# Altium footprint library ul_CZRU52C3V3.PcbLib: 3 footprints
Each footprint in its own frame and in the unit in brackets; x right, y up, seen from the top. Pads: shape width x height; smd on the part's side, far side on the other; paste and mask are expansions set on the pad; w line width, h text height; cw(c..) or ccw(c..) is an arc to the next point about the centre after c.
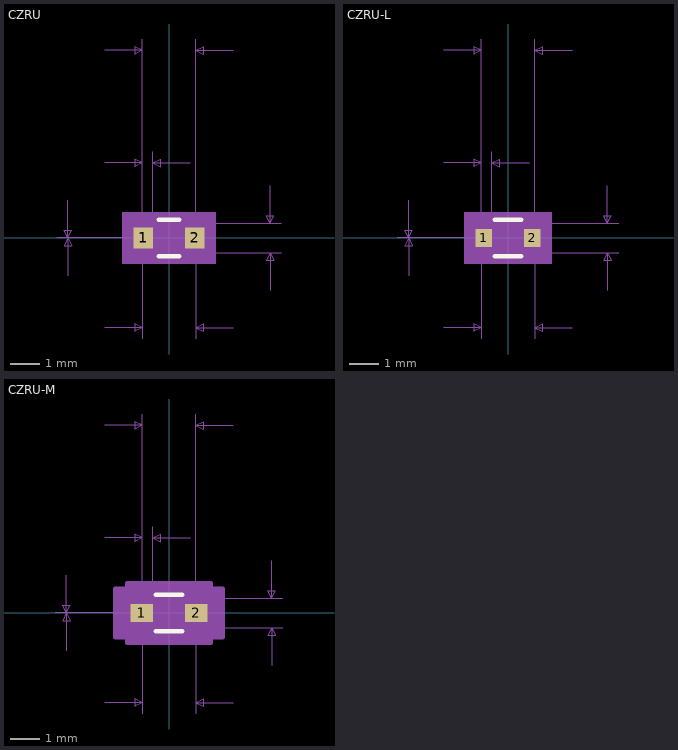
[diagram p0: the footprints below, top view; thin cyan lines are the x and y axes]

## CZRU [mil]
pads (2):
  rect 26x28 smd mask+1: 1(-34.5,0) 2(34.5,0)
Top Overlay:
  lines w6: -13.67,-24.5 13.67,-24.5 ; -13.67,24.5 13.67,24.5
Mechanical 5:
  region: 62.5,-34.5 -62.5,-34.5 -62.5,34.5 62.5,34.5
Mechanical 7:
  lines w1: -134.5,-50 -134.5,0 ; -134.5,50 -134.5,0 ; -85.5,-119.5 -35.5,-119.5 ; -85.5,100 -35.5,100 ; -85.5,250 -35.5,250 ; -35.5,-134.5 -35.5,-19.5 ; -35.5,115 -35.5,0 -35.5,265 ; -21.5,0 -21.5,115 ; 28.5,100 -21.5,100 ; 35.5,-134.5 35.5,-19.5 149.5,-19.5 ; 35.5,0 35.5,265 ; 35.5,19.5 149.5,19.5 ; 85.5,-119.5 35.5,-119.5 ; 85.5,250 35.5,250 ; 134.5,-69.5 134.5,-19.5 ; 134.5,69.5 134.5,19.5 ; -134.5,0 -139.5,10 -129.5,10 -134.5,0 ; -134.5,0 -139.5,-10 -129.5,-10 -134.5,0 ; -35.5,-119.5 -45.5,-114.5 -45.5,-124.5 -35.5,-119.5 ; -35.5,100 -45.5,105 -45.5,95 -35.5,100 ; -35.5,250 -45.5,255 -45.5,245 -35.5,250 ; -21.5,100 -11.5,105 -11.5,95 -21.5,100 ; 35.5,-119.5 45.5,-114.5 45.5,-124.5 35.5,-119.5 ; 35.5,250 45.5,255 45.5,245 35.5,250 ; 134.5,-19.5 129.5,-29.5 139.5,-29.5 134.5,-19.5 ; 134.5,19.5 129.5,29.5 139.5,29.5 134.5,19.5 ; -149.5,0 -34.5,0 -149.5,0
  text "Pin 1 Padstyle: RX26Y28D0T" at -325,-329.5 h50
  text "Default Padstyle: RX26Y28D0TSM2" at -387.5,-389.5 h50
  text "Alt 1 Padstyle: OX60Y90D30P" at -337.5,-569.5 h50
  text "Alt 2 Padstyle: OX90Y60D30P" at -337.5,-629.5 h50
  text "0.071in/1.803mm" at -93.75,270 h25
  text "0.014in/0.356mm" at -122.25,120 h25
  text "0in/0mm" at -242,-12.5 h25
  text "0.039in/0.991mm" at 154.5,-12.5 h25
  text "0.071in/1.803mm" at -93.75,-164.5 h25
Mechanical 13:
  circle w6: c-21.5,0 r3
  lines w0: -12,19.5 ccw(c0,19.5) 12,19.5
  lines w1: -35.5,-19.5 35.5,-19.5 35.5,19.5 -35.5,19.5 -35.5,-19.5
Mechanical 15:
  region: -45.5,-24 -57.5,-24 -57.5,24 -45.5,24 -45.5,29.5 45.5,29.5 45.5,24 57.5,24 57.5,-24 45.5,-24 45.5,-29.5 -45.5,-29.5
  lines w6: -57.5,-24 -57.5,24 -45.5,24 -45.5,29.5 45.5,29.5 45.5,24 57.5,24 57.5,-24 45.5,-24 45.5,-29.5 -45.5,-29.5 -45.5,-24 -57.5,-24
3D body: height 10, standoff 0, extent 0,0 10,10

## CZRU-L [mil]
pads (2):
  rect 22x24 smd paste+0 mask+0: 1(-32.5,0) 2(32.5,0)
Top Overlay:
  lines w6: -17.58,-24.5 17.58,-24.5 ; -17.58,24.5 17.58,24.5
Mechanical 5:
  region: 58.5,-34.5 -58.5,-34.5 -58.5,34.5 58.5,34.5
Mechanical 7:
  lines w1: -132.5,-50 -132.5,0 ; -132.5,50 -132.5,0 ; -85.5,-119.5 -35.5,-119.5 ; -85.5,100 -35.5,100 ; -85.5,250 -35.5,250 ; -35.5,-134.5 -35.5,-19.5 ; -35.5,115 -35.5,0 -35.5,265 ; -21.5,0 -21.5,115 ; 28.5,100 -21.5,100 ; 35.5,-134.5 35.5,-19.5 147.5,-19.5 ; 35.5,0 35.5,265 ; 35.5,19.5 147.5,19.5 ; 85.5,-119.5 35.5,-119.5 ; 85.5,250 35.5,250 ; 132.5,-69.5 132.5,-19.5 ; 132.5,69.5 132.5,19.5 ; -132.5,0 -137.5,10 -127.5,10 -132.5,0 ; -132.5,0 -137.5,-10 -127.5,-10 -132.5,0 ; -35.5,-119.5 -45.5,-114.5 -45.5,-124.5 -35.5,-119.5 ; -35.5,100 -45.5,105 -45.5,95 -35.5,100 ; -35.5,250 -45.5,255 -45.5,245 -35.5,250 ; -21.5,100 -11.5,105 -11.5,95 -21.5,100 ; 35.5,-119.5 45.5,-114.5 45.5,-124.5 35.5,-119.5 ; 35.5,250 45.5,255 45.5,245 35.5,250 ; 132.5,-19.5 127.5,-29.5 137.5,-29.5 132.5,-19.5 ; 132.5,19.5 127.5,29.5 137.5,29.5 132.5,19.5 ; -147.5,0 -32.5,0 -147.5,0
  text "Pin 1 Padstyle: RX22Y24D0T" at -325,-329.5 h50
  text "Default Padstyle: RX22Y24D0TSM2" at -387.5,-389.5 h50
  text "Alt 1 Padstyle: OX60Y90D30P" at -337.5,-569.5 h50
  text "Alt 2 Padstyle: OX90Y60D30P" at -337.5,-629.5 h50
  text "0.071in/1.803mm" at -93.75,270 h25
  text "0.014in/0.356mm" at -122.25,120 h25
  text "0in/0mm" at -240,-12.5 h25
  text "0.039in/0.991mm" at 152.5,-12.5 h25
  text "0.071in/1.803mm" at -93.75,-164.5 h25
Mechanical 13:
  circle w6: c-21.5,0 r3
  lines w0: -12,19.5 ccw(c0,19.5) 12,19.5
  lines w1: -35.5,-19.5 35.5,-19.5 35.5,19.5 -35.5,19.5 -35.5,-19.5
Mechanical 15:
  region: -39.5,-16 -47.5,-16 -47.5,16 -39.5,16 -39.5,23.5 39.5,23.5 39.5,16 47.5,16 47.5,-16 39.5,-16 39.5,-23.5 -39.5,-23.5
  lines w6: -47.5,-16 -47.5,16 -39.5,16 -39.5,23.5 39.5,23.5 39.5,16 47.5,16 47.5,-16 39.5,-16 39.5,-23.5 -39.5,-23.5 -39.5,-16 -47.5,-16
3D body: height 10, standoff 0, extent 0,0 10,10

## CZRU-M [mil]
pads (2):
  rect 30x24 smd paste+0 mask+0: 1(-36.5,0) 2(36.5,0)
Top Overlay:
  lines w6: -17.58,-24.5 17.58,-24.5 ; -17.58,24.5 17.58,24.5
Mechanical 5:
  region: 66.5,-34.5 -66.5,-34.5 -66.5,34.5 66.5,34.5
Mechanical 7:
  lines w1: -136.5,-50 -136.5,0 ; -136.5,50 -136.5,0 ; -85.5,-119.5 -35.5,-119.5 ; -85.5,100 -35.5,100 ; -85.5,250 -35.5,250 ; -35.5,-134.5 -35.5,-19.5 ; -35.5,115 -35.5,0 -35.5,265 ; -21.5,0 -21.5,115 ; 28.5,100 -21.5,100 ; 35.5,-134.5 35.5,-19.5 151.5,-19.5 ; 35.5,0 35.5,265 ; 35.5,19.5 151.5,19.5 ; 85.5,-119.5 35.5,-119.5 ; 85.5,250 35.5,250 ; 136.5,-69.5 136.5,-19.5 ; 136.5,69.5 136.5,19.5 ; -136.5,0 -141.5,10 -131.5,10 -136.5,0 ; -136.5,0 -141.5,-10 -131.5,-10 -136.5,0 ; -35.5,-119.5 -45.5,-114.5 -45.5,-124.5 -35.5,-119.5 ; -35.5,100 -45.5,105 -45.5,95 -35.5,100 ; -35.5,250 -45.5,255 -45.5,245 -35.5,250 ; -21.5,100 -11.5,105 -11.5,95 -21.5,100 ; 35.5,-119.5 45.5,-114.5 45.5,-124.5 35.5,-119.5 ; 35.5,250 45.5,255 45.5,245 35.5,250 ; 136.5,-19.5 131.5,-29.5 141.5,-29.5 136.5,-19.5 ; 136.5,19.5 131.5,29.5 141.5,29.5 136.5,19.5 ; -151.5,0 -36.5,0 -151.5,0
  text "Pin 1 Padstyle: RX30Y24D0T" at -325,-329.5 h50
  text "Default Padstyle: RX30Y24D0TSM2" at -387.5,-389.5 h50
  text "Alt 1 Padstyle: OX60Y90D30P" at -337.5,-569.5 h50
  text "Alt 2 Padstyle: OX90Y60D30P" at -337.5,-629.5 h50
  text "0.071in/1.803mm" at -93.75,270 h25
  text "0.014in/0.356mm" at -122.25,120 h25
  text "0in/0mm" at -244,-12.5 h25
  text "0.039in/0.991mm" at 156.5,-12.5 h25
  text "0.071in/1.803mm" at -93.75,-164.5 h25
Mechanical 13:
  circle w6: c-21.5,0 r3
  lines w0: -12,19.5 ccw(c0,19.5) 12,19.5
  lines w1: -35.5,-19.5 35.5,-19.5 35.5,19.5 -35.5,19.5 -35.5,-19.5
Mechanical 15:
  region: -55.5,-32 -71.5,-32 -71.5,32 -55.5,32 -55.5,39.5 55.5,39.5 55.5,32 71.5,32 71.5,-32 55.5,-32 55.5,-39.5 -55.5,-39.5
  lines w6: -71.5,-32 -71.5,32 -55.5,32 -55.5,39.5 55.5,39.5 55.5,32 71.5,32 71.5,-32 55.5,-32 55.5,-39.5 -55.5,-39.5 -55.5,-32 -71.5,-32
3D body: height 10, standoff 0, extent 0,0 10,10